# Altium footprint library Components.PcbLib: 24 footprints (part 1 of 2)
Each footprint in its own frame and in the unit in brackets; x right, y up, seen from the top. Pads: shape width x height; smd on the part's side, far side on the other; paste and mask are expansions set on the pad; w line width, h text height; cw(c..) or ccw(c..) is an arc to the next point about the centre after c.
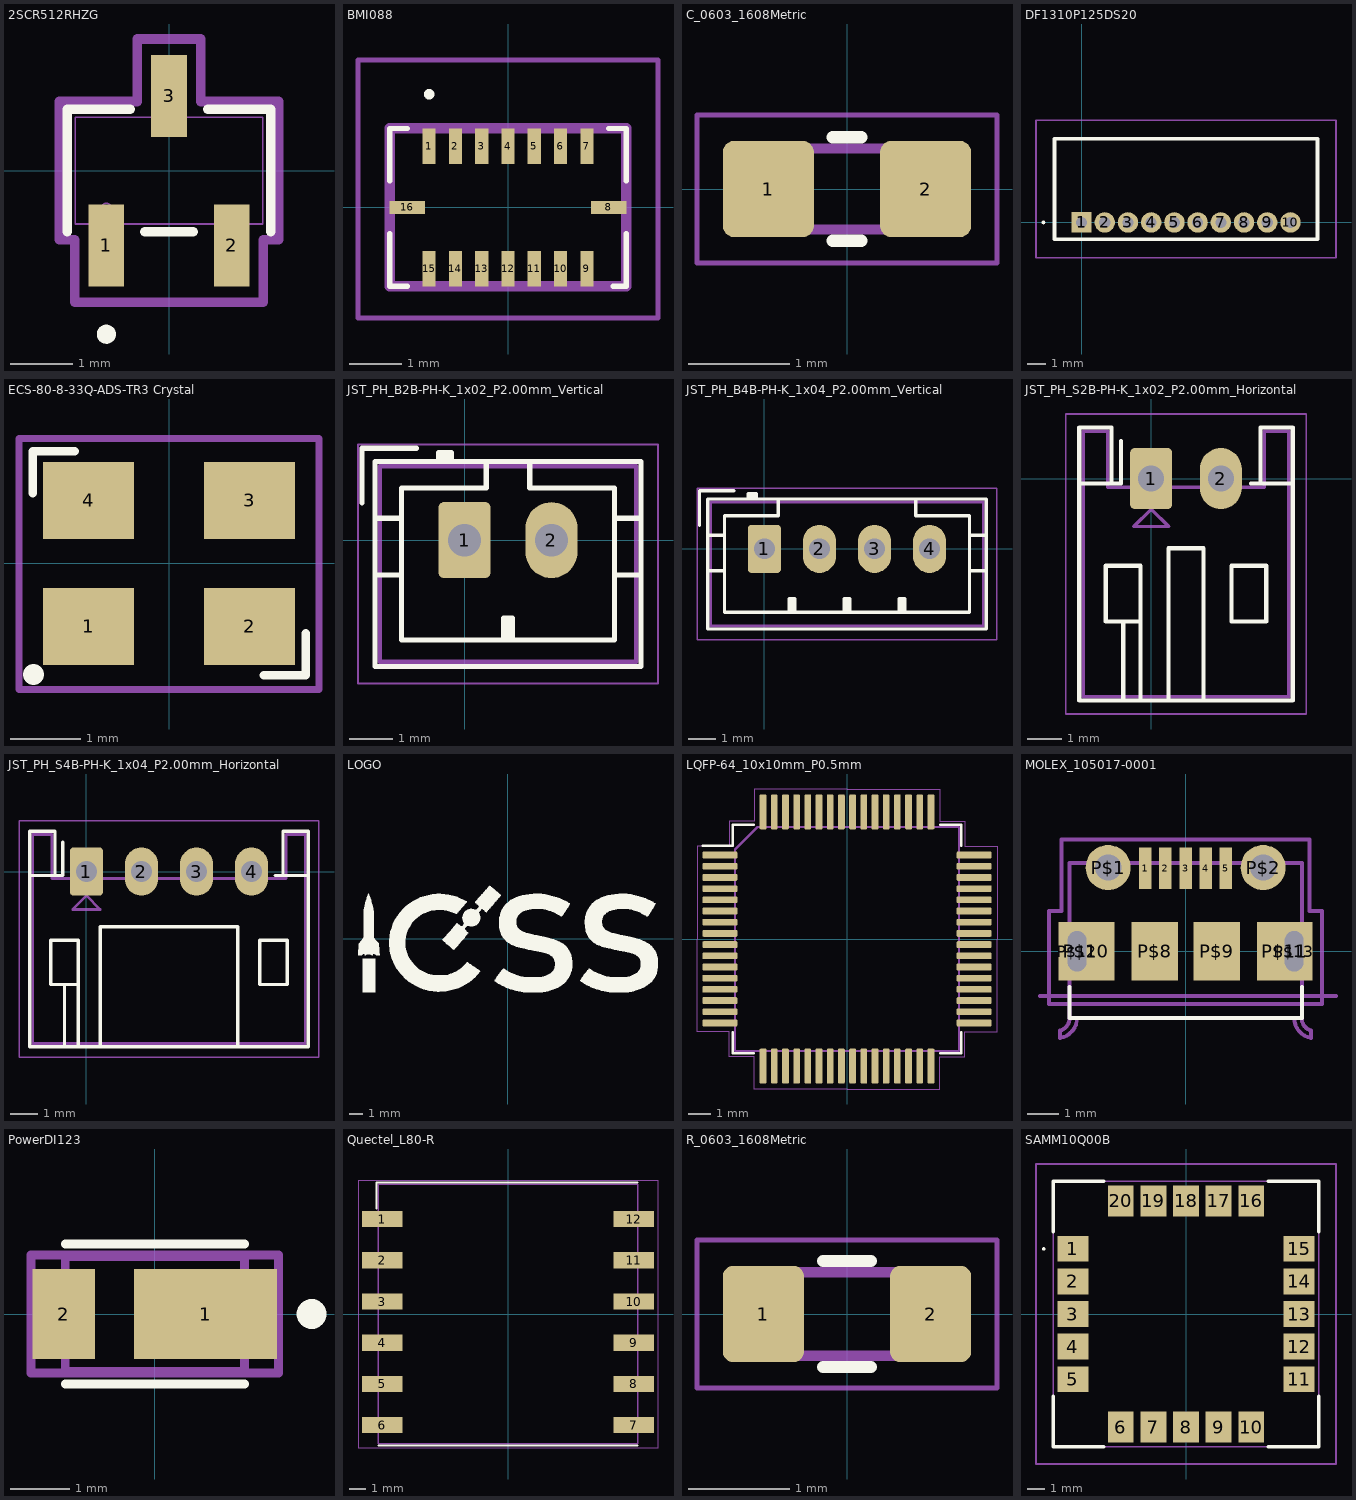
[diagram p0: the footprints below, top view; thin cyan lines are the x and y axes]

## 2SCR512RHZG [mil]
pads (3):
  rect 22.36x51.56 smd: 1(-39.37,-47) 2(39.37,-47) 3(0,47)
F.SilkS:
  circle w6: c-39.37,-102.78 r3
  lines w6: -64,-38.5 -64,38.5 -24.28,38.5 ; -15.09,-38.5 15.09,-38.5 ; 24.28,38.5 64,38.5 64,-38.5
F.Fab:
  circle w1: c-39.37,-23.5 r3
  lines w1: -59,-33.5 -59,33.5 59,33.5 59,-33.5 -59,-33.5 ; -49.37,-59 -49.37,-33.5 -29.37,-33.5 -29.37,-59 -49.37,-59 ; -10,33.5 10,33.5 10,59 -10,59 -10,33.5 ; 29.37,-59 29.37,-33.5 49.37,-33.5 49.37,-59 29.37,-59
  text "'.Designator'" at -56.64,-15.69 h39.37
F.CrtYd:
  lines w6: -69,-43.5 -69,43.5 -20,43.5 -20,82.78 20,82.78 20,43.5 69,43.5 69,-43.5 59.37,-43.5 59.37,-82.78 -59.37,-82.78 -59.37,-43.5 -69,-43.5

## BMI088 [mm]
pads (16):
  rect 0.25x0.675 smd: 1(-1.5,1.165) 2(-1,1.165) 3(-0.5,1.165) 4(0,1.165) 5(0.5,1.165) 6(1,1.165) 7(1.5,1.165) 9(1.5,-1.165) 10(1,-1.165) 11(0.5,-1.165) 12(0,-1.165) 13(-0.5,-1.165) 14(-1,-1.165) 15(-1.5,-1.165)
  rect 0.675x0.25 smd: 8(1.915,0) 16(-1.915,0)
F.SilkS:
  lines w0.1: -2.25,-0.5 -2.25,-1.5 -1.915,-1.5 ; -2.25,0.5 -2.25,1.5 -1.915,1.5 ; 1.915,1.5 2.25,1.5 2.25,0.5 ; 2,-1.5 2.25,-1.5 2.25,-0.5 ; -1.5,2.1 cw(c-1.5,2.15) -1.5,2.2 cw(c-1.5,2.15) -1.5,2.1
F.Fab:
  lines w0.2: -2.25,-1.5 -2.25,1.5 2.25,1.5 2.25,-1.5 -2.25,-1.5
  text "'.Designator'" at -1.826,-0.157 h1.27
F.CrtYd:
  lines w0.1: -2.852,-2.103 2.852,-2.103 2.852,2.8 -2.852,2.8 -2.852,-2.103

## C_0603_1608Metric [mm]
pads (2):
  rrect25% 0.9x0.95 smd: 1(-0.775,0) 2(0.775,0)
F.SilkS:
  lines w0.12: -0.141,-0.51 0.141,-0.51 ; -0.141,0.51 0.141,0.51
F.Fab:
  lines w0.1: -0.8,-0.4 0.8,-0.4 0.8,0.4 -0.8,0.4 -0.8,-0.4
  text "'.Designator'" at -0.573,-0.159 h0.4
F.CrtYd:
  lines w0.05: -1.48,-0.73 -1.48,0.73 1.48,0.73 1.48,-0.73 -1.48,-0.73

## DF1310P125DS20 [mm]
pads (10):
  rect 1.1x1.1 hole 0.6: 1(0,0)
  round 1.1 hole 0.6: 2(1.25,0) 3(2.5,0) 4(3.75,0) 5(5,0) 6(6.25,0) 7(7.5,0) 8(8.75,0) 9(10,0) 10(11.25,0)
F.SilkS:
  lines w0.1: -2.1,0 ccw(c-2.05,0) -2,0 ccw(c-2.05,0) -2.1,0
  lines w0.2: -1.45,-0.9 12.7,-0.9 12.7,4.5 -1.45,4.5 -1.45,-0.9
F.Fab:
  lines w0.1: -1.45,-0.9 12.7,-0.9 12.7,4.5 -1.45,4.5 -1.45,-0.9
  text "'.Designator'" at 3.799,1.294 h1.27
F.CrtYd:
  lines w0.1: -2.45,-1.9 -2.45,5.5 13.7,5.5 13.7,-1.9 -2.45,-1.9

## ECS-80-8-33Q-ADS-TR3 Crystal [mm]
pads (4):
  rect 1.3x1.1 smd: 1(-1.15,-0.9) 2(1.15,-0.9) 3(1.15,0.9) 4(-1.15,0.9)
F.SilkS:
  lines w0.12: -1.95,1 -1.95,1.6 -1.35,1.6 ; 1.35,-1.6 1.95,-1.6 1.95,-1
  lines w0.3: -1.942,-1.585 -1.941,-1.587
F.Fab:
  text "'.Designator'" at -1.439,-2.898 h1
F.CrtYd:
  lines w0.1: -2.146,-1.799 -2.146,1.78 2.14,1.78 2.14,-1.799 -2.146,-1.799

## JST_PH_B2B-PH-K_1x02_P2.00mm_Vertical [mm]
pads (2):
  rrect21% 1.2x1.75 hole 0.75: 1(0,0)
  rrect100% 1.2x1.75 hole 0.75: 2(2,0)
F.SilkS:
  lines w0.12: -2.36,0.86 -2.36,2.11 -1.11,2.11 ; -2.06,-0.8 -1.45,-0.8 ; -2.06,0.5 -1.45,0.5 ; -0.6,1.81 -0.6,2.01 -0.3,2.01 -0.3,1.81 ; -0.6,1.91 -0.3,1.91 ; 0.5,1.81 0.5,1.2 -1.45,1.2 -1.45,-2.3 3.45,-2.3 3.45,1.2 1.5,1.2 1.5,1.81 ; 0.9,-2.3 0.9,-1.8 1.1,-1.8 1.1,-2.3 ; 1,-2.3 1,-1.8 ; 3.45,-0.8 4.06,-0.8 ; 3.45,0.5 4.06,0.5 ; -2.06,-2.91 -2.06,1.81 4.06,1.81 4.06,-2.91 -2.06,-2.91
F.Fab:
  lines w0.1: -2.36,0.86 -2.36,2.11 -1.11,2.11 ; -1.95,-2.8 3.95,-2.8 3.95,1.7 -1.95,1.7 -1.95,-2.8
  text "'.Designator'" at -0.439,-1.898 h1
F.CrtYd:
  lines w0.05: -2.45,-3.3 4.45,-3.3 4.45,2.2 -2.45,2.2 -2.45,-3.3

## JST_PH_B4B-PH-K_1x04_P2.00mm_Vertical [mm]
pads (4):
  rrect21% 1.2x1.75 hole 0.75: 1(0,0)
  rrect100% 1.2x1.75 hole 0.75: 2(2,0) 3(4,0) 4(6,0)
F.SilkS:
  lines w0.12: -2.36,0.86 -2.36,2.11 -1.11,2.11 ; -2.06,-0.8 -1.45,-0.8 ; -2.06,0.5 -1.45,0.5 ; -0.6,1.81 -0.6,2.01 -0.3,2.01 -0.3,1.81 ; -0.6,1.91 -0.3,1.91 ; 0.5,1.81 0.5,1.2 -1.45,1.2 -1.45,-2.3 7.45,-2.3 7.45,1.2 5.5,1.2 5.5,1.81 ; 0.9,-2.3 0.9,-1.8 1.1,-1.8 1.1,-2.3 ; 1,-2.3 1,-1.8 ; 2.9,-2.3 2.9,-1.8 3.1,-1.8 3.1,-2.3 ; 3,-2.3 3,-1.8 ; 4.9,-2.3 4.9,-1.8 5.1,-1.8 5.1,-2.3 ; 5,-2.3 5,-1.8 ; 7.45,-0.8 8.06,-0.8 ; 7.45,0.5 8.06,0.5 ; -2.06,-2.91 -2.06,1.81 8.06,1.81 8.06,-2.91 -2.06,-2.91
F.Fab:
  lines w0.1: -2.36,0.86 -2.36,2.11 -1.11,2.11 ; -1.95,-2.8 -1.95,1.7 7.95,1.7 7.95,-2.8 -1.95,-2.8
  text "'.Designator'" at 1.561,-1.898 h1
F.CrtYd:
  lines w0.05: -2.45,-3.3 -2.45,2.2 8.45,2.2 8.45,-3.3 -2.45,-3.3

## JST_PH_S2B-PH-K_1x02_P2.00mm_Horizontal [mm]
pads (2):
  rrect21% 1.2x1.75 hole 0.75: 1(0,0)
  rrect100% 1.2x1.75 hole 0.75: 2(2,0)
F.SilkS:
  lines w0.12: -2.06,-0.14 -1.14,-0.14 ; -0.86,1.075 -0.86,-0.14 -1.14,-0.14 ; -0.8,-6.36 -0.8,-4.1 ; -0.3,-6.36 -0.3,-4.1 ; 0.5,-6.36 0.5,-2 1.5,-2 1.5,-6.36 ; 2.86,-0.14 3.14,-0.14 ; 4.06,-0.14 3.14,-0.14 ; -1.14,-0.14 -1.14,1.46 -2.06,1.46 -2.06,-6.36 4.06,-6.36 4.06,1.46 3.14,1.46 3.14,-0.14 ; -0.3,-4.1 -0.3,-2.5 -1.3,-2.5 -1.3,-4.1 -0.3,-4.1 ; 2.3,-4.1 2.3,-2.5 3.3,-2.5 3.3,-4.1 2.3,-4.1
F.Fab:
  lines w0.1: -1.95,-6.25 3.95,-6.25 3.95,1.35 3.25,1.35 3.25,-0.25 -1.25,-0.25 -1.25,1.35 -1.95,1.35 -1.95,-6.25 ; -0.5,-1.375 0.5,-1.375 0,-0.875 -0.5,-1.375
  text "'.Designator'" at -0.439,-2.898 h1
F.CrtYd:
  lines w0.05: -2.45,-6.75 -2.45,1.85 4.45,1.85 4.45,-6.75 -2.45,-6.75

## JST_PH_S4B-PH-K_1x04_P2.00mm_Horizontal [mm]
pads (4):
  rrect21% 1.2x1.75 hole 0.75: 1(0,0)
  rrect100% 1.2x1.75 hole 0.75: 2(2,0) 3(4,0) 4(6,0)
F.SilkS:
  lines w0.12: -2.06,-0.14 -1.14,-0.14 ; -0.86,1.075 -0.86,-0.14 -1.14,-0.14 ; -0.8,-6.36 -0.8,-4.1 ; -0.3,-6.36 -0.3,-4.1 ; 0.5,-6.36 0.5,-2 5.5,-2 5.5,-6.36 ; 6.86,-0.14 7.14,-0.14 ; 8.06,-0.14 7.14,-0.14 ; -1.14,-0.14 -1.14,1.46 -2.06,1.46 -2.06,-6.36 8.06,-6.36 8.06,1.46 7.14,1.46 7.14,-0.14 ; -0.3,-4.1 -1.3,-4.1 -1.3,-2.5 -0.3,-2.5 -0.3,-4.1 ; 6.3,-4.1 6.3,-2.5 7.3,-2.5 7.3,-4.1 6.3,-4.1
F.Fab:
  lines w0.1: -1.95,-6.25 -1.95,1.35 -1.25,1.35 -1.25,-0.25 7.25,-0.25 7.25,1.35 7.95,1.35 7.95,-6.25 -1.95,-6.25 ; -0.5,-1.375 0,-0.875 0.5,-1.375 -0.5,-1.375
  text "'.Designator'" at 1.561,-2.898 h1
F.CrtYd:
  lines w0.05: -2.45,-6.75 8.45,-6.75 8.45,1.85 -2.45,1.85 -2.45,-6.75

## LOGO [mm]
F.SilkS:
  drawing of 6 lines, arcs and shapes, not listed

## LQFP-64_10x10mm_P0.5mm [mm]
pads (64):
  rrect25% 1.55x0.3 smd: 1(-5.675,3.75) 2(-5.675,3.25) 3(-5.675,2.75) 4(-5.675,2.25) 5(-5.675,1.75) 6(-5.675,1.25) 7(-5.675,0.75) 8(-5.675,0.25) 9(-5.675,-0.25) 10(-5.675,-0.75) 11(-5.675,-1.25) 12(-5.675,-1.75) 13(-5.675,-2.25) 14(-5.675,-2.75) 15(-5.675,-3.25) 16(-5.675,-3.75) 33(5.675,-3.75) 34(5.675,-3.25) 35(5.675,-2.75) 36(5.675,-2.25) 37(5.675,-1.75) 38(5.675,-1.25) 39(5.675,-0.75) 40(5.675,-0.25) 41(5.675,0.25) 42(5.675,0.75) 43(5.675,1.25) 44(5.675,1.75) 45(5.675,2.25) 46(5.675,2.75) 47(5.675,3.25) 48(5.675,3.75)
  rrect25% 0.3x1.55 smd: 17(-3.75,-5.675) 18(-3.25,-5.675) 19(-2.75,-5.675) 20(-2.25,-5.675) 21(-1.75,-5.675) 22(-1.25,-5.675) 23(-0.75,-5.675) 24(-0.25,-5.675) 25(0.25,-5.675) 26(0.75,-5.675) 27(1.25,-5.675) 28(1.75,-5.675) 29(2.25,-5.675) 30(2.75,-5.675) 31(3.25,-5.675) 32(3.75,-5.675) 49(3.75,5.675) 50(3.25,5.675) 51(2.75,5.675) 52(2.25,5.675) 53(1.75,5.675) 54(1.25,5.675) 55(0.75,5.675) 56(0.25,5.675) 57(-0.25,5.675) 58(-0.75,5.675) 59(-1.25,5.675) 60(-1.75,5.675) 61(-2.25,5.675) 62(-2.75,5.675) 63(-3.25,5.675) 64(-3.75,5.675)
F.SilkS:
  lines w0.12: -6.45,4.16 -5.11,4.16 -5.11,5.11 -4.16,5.11 ; -5.11,-4.16 -5.11,-5.11 -4.16,-5.11 ; 4.16,-5.11 5.11,-5.11 5.11,-4.16 ; 4.16,5.11 5.11,5.11 5.11,4.16
F.Fab:
  lines w0.1: -5,-5 -5,4 -4,5 5,5 5,-5 -5,-5
  text "'.Designator'" at -1.439,-0.398 h1
F.CrtYd:
  lines w0.05: -6.7,-4.15 -5.25,-4.15 -5.25,-5.25 -4.15,-5.25 -4.15,-6.7 0,-6.7 4.15,-6.7 4.15,-5.25 5.25,-5.25 5.25,-4.15 6.7,-4.15 6.7,0 6.7,4.15 5.25,4.15 5.25,5.25 4.15,5.25 4.15,6.7 0,6.7 -4.15,6.7 -4.15,5.25 -5.25,5.25 -5.25,4.15 -6.7,4.15 -6.7,0 -6.7,-4.15

## MOLEX_105017-0001 [mm]
pads (13):
  rect 0.4x1.35 smd: 1(-1.3,2.675) 2(-0.65,2.675) 3(0,2.675) 4(0.65,2.675) 5(1.3,2.675)
  round 1.45 hole 0.85: P$1(-2.5,2.7) P$2(2.5,2.7)
  rect 1.5x1.9 smd: P$8(-1,0) P$9(1,0)
  rect 1.8x1.9 smd: P$10(-3.2,0) P$11(3.2,0)
  rrect100% 0.8x1.6 hole 1.3 slot 0.6 at 0 deg: P$12(-3.5,0) P$13(3.5,0)
F.SilkS:
  lines w0.127: -3.75,-1.15 -3.75,-2.15 3.75,-2.15 3.75,-1.15
F.Fab:
  lines w0.127: -4.7,-1.45 4.85,-1.45 ; -3.5,-2.15 cw(c-4.162,-2.147) -4.05,-2.8 -4.05,-2.55 ccw(c-4.128,-2.179) -3.75,-2.15 -3.75,2.85 3.75,2.85 3.75,-2.15
  text "PCB Edge" at 4.134,-1.529 h0.2
B.Fab:
  lines w0.127: 3.5,-2.15 ccw(c4.162,-2.147) 4.05,-2.8 4.05,-2.55 cw(c4.128,-2.179) 3.75,-2.15
F.CrtYd:
  lines w0.127: -4.4,-1.7 4.4,-1.7 4.4,1.3 4,1.3 4,3.6 -4,3.6 -4,1.3 -4.4,1.3 -4.4,-1.7

## PowerDI123 [mm]
pads (2):
  rect 2.4x1.5 smd: 1(0.85,0)
  rect 1.05x1.5 smd: 2(-1.525,0)
F.SilkS:
  circle w0.25: c2.625,0 r0.125
  lines w0.15: -1.5,-1.175 1.5,-1.175 ; -1.5,1.175 1.5,1.175
F.Fab:
  lines w0.15: -1.5,-0.965 -1.5,0.965 1.5,0.965 1.5,-0.965 -1.5,-0.965
F.CrtYd:
  lines w0.15: -2.075,-0.99 -2.075,0.99 2.075,0.99 2.075,-0.99 -2.075,-0.99

## Quectel_L80-R [mm]
pads (12):
  rect 2.5x1 smd: 1(-7.75,5.85) 2(-7.75,3.31) 3(-7.75,0.77) 4(-7.75,-1.77) 5(-7.75,-4.31) 6(-7.75,-6.85) 7(7.75,-6.85) 8(7.75,-4.31) 9(7.75,-1.77) 10(7.75,0.77) 11(7.75,3.31) 12(7.75,5.85)
F.SilkS:
  lines w0.12: -8.11,6.5 -8.11,8.11 8,8.11 ; -8,-8.11 8,-8.11
F.Fab:
  lines w0.1: -8,-8 -8,8 8,8 8,-8 -8,-8
  text "'.Designator'" at -1.439,-2.43 h1
F.CrtYd:
  lines w0.05: -9.25,-8.25 9.25,-8.25 9.25,8.25 -9.25,8.25 -9.25,-8.25
Cmts.User:
  text "Keepout" at -0.962,0.48 h0.4

## R_0603_1608Metric [mm]
pads (2):
  rrect25% 0.8x0.95 smd: 1(-0.825,0) 2(0.825,0)
F.SilkS:
  lines w0.12: -0.237,-0.523 0.237,-0.523 ; -0.237,0.523 0.237,0.523
F.Fab:
  lines w0.1: -0.8,-0.413 0.8,-0.413 0.8,0.413 -0.8,0.413 -0.8,-0.413
  text "'.Designator'" at -0.573,-0.159 h0.4
F.CrtYd:
  lines w0.05: -1.48,-0.73 -1.48,0.73 1.48,0.73 1.48,-0.73 -1.48,-0.73

## SAMM10Q00B [mm]
pads (20):
  rect 1.8x1.5 smd: 1(-6.6,3.8) 2(-6.6,1.9) 3(-6.6,0) 4(-6.6,-1.9) 5(-6.6,-3.8) 11(6.6,-3.8) 12(6.6,-1.9) 13(6.6,0) 14(6.6,1.9) 15(6.6,3.8)
  rect 1.5x1.8 smd: 6(-3.8,-6.6) 7(-1.9,-6.6) 8(0,-6.6) 9(1.9,-6.6) 10(3.8,-6.6) 16(3.8,6.6) 17(1.9,6.6) 18(0,6.6) 19(-1.9,6.6) 20(-3.8,6.6)
F.SilkS:
  lines w0.1: -8.35,3.8 ccw(c-8.3,3.8) -8.25,3.8 ccw(c-8.3,3.8) -8.35,3.8
  lines w0.2: -7.75,-4.8 -7.75,-7.75 -4.8,-7.75 ; -7.75,4.8 -7.75,7.75 -4.8,7.75 ; 4.8,-7.75 7.75,-7.75 7.75,-4.8 ; 4.8,7.75 7.75,7.75 7.75,4.8
F.Fab:
  lines w0.1: -7.75,-7.75 7.75,-7.75 7.75,7.75 -7.75,7.75 -7.75,-7.75
  text "'.Designator'" at -1.826,-0.506 h1.27
F.CrtYd:
  lines w0.1: -8.75,-8.75 -8.75,8.75 8.75,8.75 8.75,-8.75 -8.75,-8.75